# Altium footprint library Connector_PinHeader_1.27mm.PcbLib: 278 footprints (part 16 of 18)
Each footprint in its own frame and in the unit in brackets; x right, y up, seen from the top. Pads: shape width x height; smd on the part's side, far side on the other; paste and mask are expansions set on the pad; w line width, h text height; cw(c..) or ccw(c..) is an arc to the next point about the centre after c.
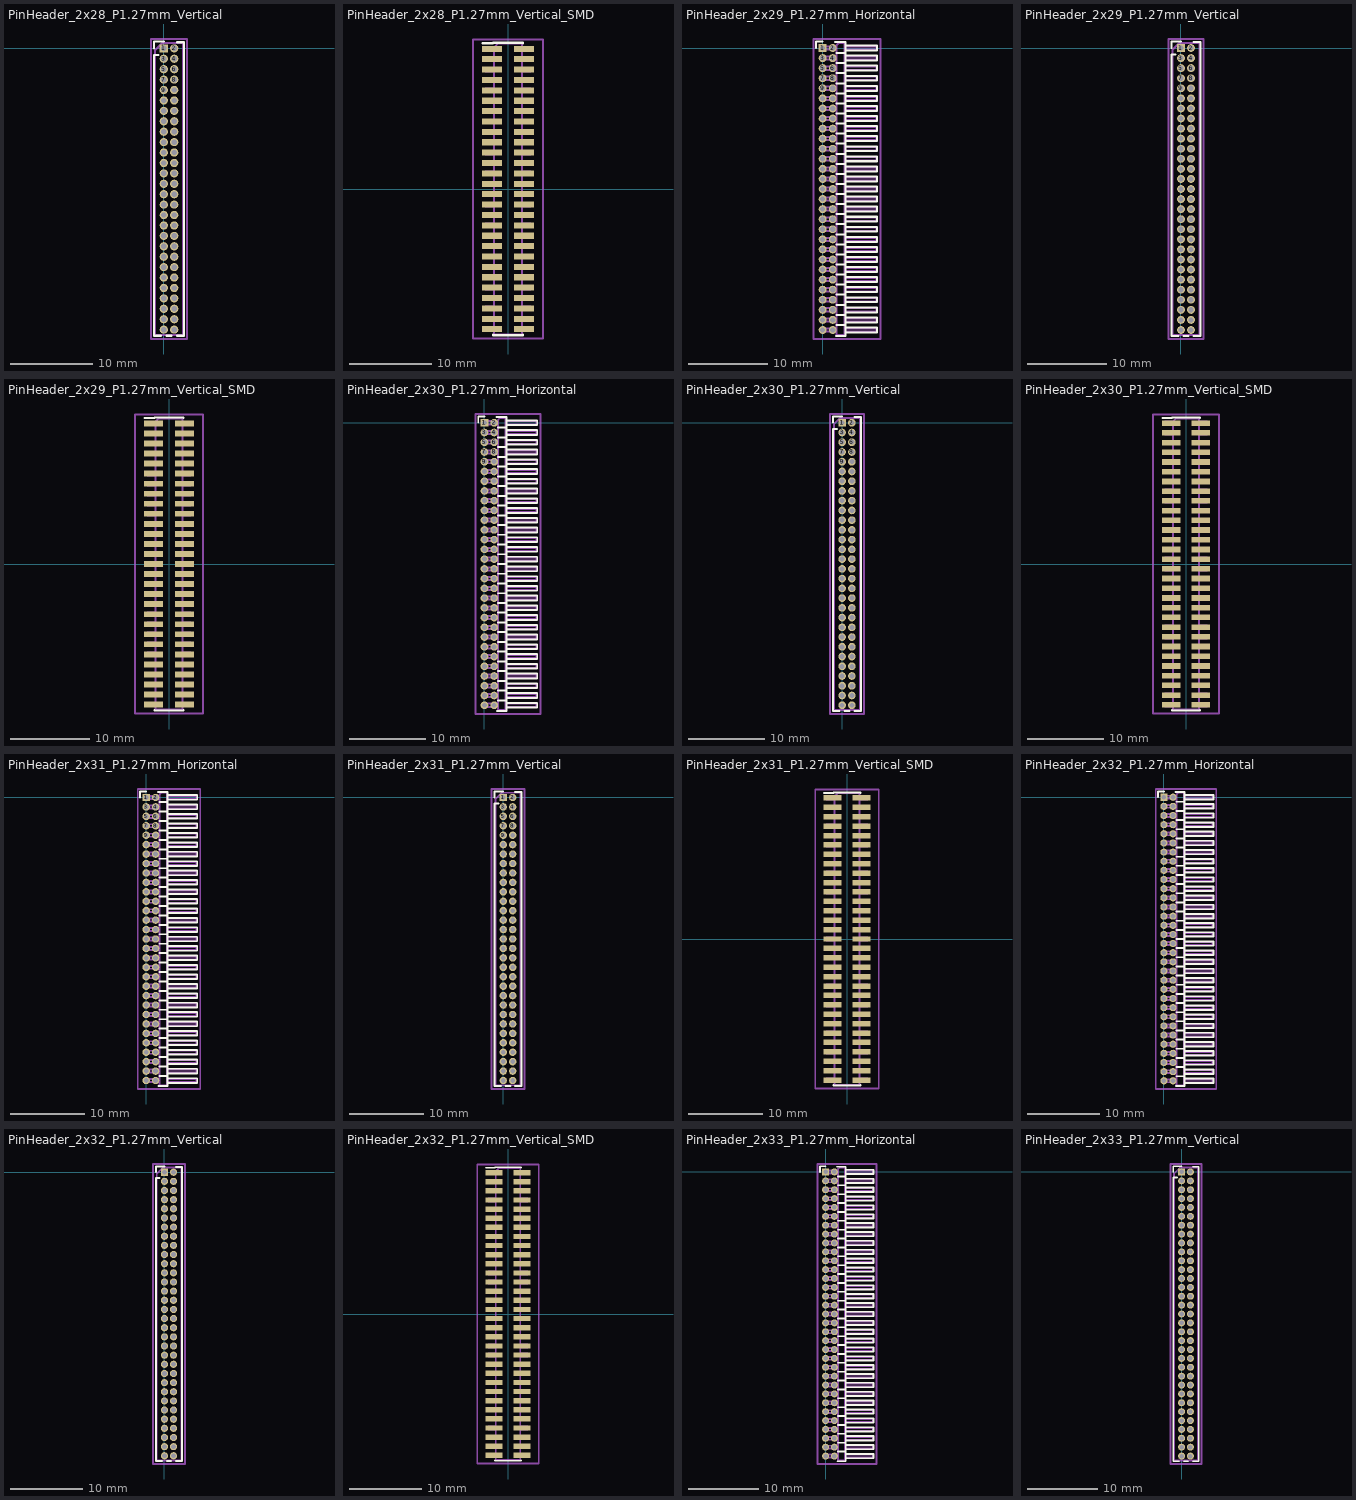
[diagram p15: the footprints below, top view; thin cyan lines are the x and y axes]

## PinHeader_2x28_P1.27mm_Vertical [mm]
pads (56):
  rect 1x1 hole 0.65: 1(0,0)
  round 1 hole 0.65: 2(1.27,0) 3(0,-1.27) 4(1.27,-1.27) 5(0,-2.54) 6(1.27,-2.54) 7(0,-3.81) 8(1.27,-3.81) 9(0,-5.08) 10(1.27,-5.08) 11(0,-6.35) 12(1.27,-6.35) 13(0,-7.62) 14(1.27,-7.62) 15(0,-8.89) 16(1.27,-8.89) 17(0,-10.16) 18(1.27,-10.16) 19(0,-11.43) 20(1.27,-11.43) 21(0,-12.7) 22(1.27,-12.7) 23(0,-13.97) 24(1.27,-13.97) 25(0,-15.24) 26(1.27,-15.24) 27(0,-16.51) 28(1.27,-16.51) 29(0,-17.78) 30(1.27,-17.78) 31(0,-19.05) 32(1.27,-19.05) 33(0,-20.32) 34(1.27,-20.32) 35(0,-21.59) 36(1.27,-21.59) 37(0,-22.86) 38(1.27,-22.86) 39(0,-24.13) 40(1.27,-24.13) 41(0,-25.4) 42(1.27,-25.4) 43(0,-26.67) 44(1.27,-26.67) 45(0,-27.94) 46(1.27,-27.94) 47(0,-29.21) 48(1.27,-29.21) 49(0,-30.48) 50(1.27,-30.48) 51(0,-31.75) 52(1.27,-31.75) 53(0,-33.02) 54(1.27,-33.02) 55(0,-34.29) 56(1.27,-34.29)
F.SilkS:
  lines w0.254: -1.18,0 -1.18,0.81 0,0.81 ; -0.667,-0.81 -1.18,-0.81 -1.18,-35.035 -0.318,-35.035 ; 0.318,-35.035 0.952,-35.035 ; 1.588,-35.035 2.45,-35.035 2.45,0.745 1.588,0.745
Top Assembly:
  lines w0.254: -1.07,-34.925 2.34,-34.925 2.34,0.635 -0.218,0.635 -1.07,-0.218 -1.07,-34.925
  text "'.Designator'" at 1.475,-21.192 h1
Top Courtyard:
  lines w0.254: -1.57,-35.43 2.84,-35.43 2.84,1.14 -1.57,1.14 -1.57,-35.43
Top Designator:
  text ".Designator" at -6.983,-17.653 h1.52

## PinHeader_2x28_P1.27mm_Vertical_SMD [mm]
pads (56):
  rect 2.4x0.74 smd: 1(-1.95,17.145) 2(1.95,17.145) 3(-1.95,15.875) 4(1.95,15.875) 5(-1.95,14.605) 6(1.95,14.605) 7(-1.95,13.335) 8(1.95,13.335) 9(-1.95,12.065) 10(1.95,12.065) 11(-1.95,10.795) 12(1.95,10.795) 13(-1.95,9.525) 14(1.95,9.525) 15(-1.95,8.255) 16(1.95,8.255) 17(-1.95,6.985) 18(1.95,6.985) 19(-1.95,5.715) 20(1.95,5.715) 21(-1.95,4.445) 22(1.95,4.445) 23(-1.95,3.175) 24(1.95,3.175) 25(-1.95,1.905) 26(1.95,1.905) 27(-1.95,0.635) 28(1.95,0.635) 29(-1.95,-0.635) 30(1.95,-0.635) 31(-1.95,-1.905) 32(1.95,-1.905) 33(-1.95,-3.175) 34(1.95,-3.175) 35(-1.95,-4.445) 36(1.95,-4.445) 37(-1.95,-5.715) 38(1.95,-5.715) 39(-1.95,-6.985) 40(1.95,-6.985) 41(-1.95,-8.255) 42(1.95,-8.255) 43(-1.95,-9.525) 44(1.95,-9.525) 45(-1.95,-10.795) 46(1.95,-10.795) 47(-1.95,-12.065) 48(1.95,-12.065) 49(-1.95,-13.335) 50(1.95,-13.335) 51(-1.95,-14.605) 52(1.95,-14.605) 53(-1.95,-15.875) 54(1.95,-15.875) 55(-1.95,-17.145) 56(1.95,-17.145)
F.SilkS:
  lines w0.254: -3.09,17.825 -1.815,17.825 -1.815,17.89 1.815,17.89 1.815,17.825 ; -1.815,-17.825 -1.815,-17.89 1.815,-17.89 1.815,-17.825
Top Assembly:
  drawing of 173 lines, arcs and shapes, not listed
  text "'.Designator'" at 0.84,-4.047 h1
Top Courtyard:
  lines w0.254: -4.29,-18.28 4.29,-18.28 4.29,18.28 -4.29,18.28 -4.29,-18.28
Top Designator:
  text ".Designator" at -7.618,-0.508 h1.52

## PinHeader_2x29_P1.27mm_Horizontal [mm]
pads (58):
  rect 1x1 hole 0.65: 1(0,0)
  round 1 hole 0.65: 2(1.27,0) 3(0,-1.27) 4(1.27,-1.27) 5(0,-2.54) 6(1.27,-2.54) 7(0,-3.81) 8(1.27,-3.81) 9(0,-5.08) 10(1.27,-5.08) 11(0,-6.35) 12(1.27,-6.35) 13(0,-7.62) 14(1.27,-7.62) 15(0,-8.89) 16(1.27,-8.89) 17(0,-10.16) 18(1.27,-10.16) 19(0,-11.43) 20(1.27,-11.43) 21(0,-12.7) 22(1.27,-12.7) 23(0,-13.97) 24(1.27,-13.97) 25(0,-15.24) 26(1.27,-15.24) 27(0,-16.51) 28(1.27,-16.51) 29(0,-17.78) 30(1.27,-17.78) 31(0,-19.05) 32(1.27,-19.05) 33(0,-20.32) 34(1.27,-20.32) 35(0,-21.59) 36(1.27,-21.59) 37(0,-22.86) 38(1.27,-22.86) 39(0,-24.13) 40(1.27,-24.13) 41(0,-25.4) 42(1.27,-25.4) 43(0,-26.67) 44(1.27,-26.67) 45(0,-27.94) 46(1.27,-27.94) 47(0,-29.21) 48(1.27,-29.21) 49(0,-30.48) 50(1.27,-30.48) 51(0,-31.75) 52(1.27,-31.75) 53(0,-33.02) 54(1.27,-33.02) 55(0,-34.29) 56(1.27,-34.29) 57(0,-35.56) 58(1.27,-35.56)
F.SilkS:
  lines w0.254: -0.81,0 -0.81,0.81 0,0.81 ; 1.588,0.745 2.88,0.745 2.88,-36.305 1.66,-36.305 ; 1.773,-34.925 2.88,-34.925 ; 1.773,-33.655 2.88,-33.655 ; 1.773,-32.385 2.88,-32.385 ; 1.773,-31.115 2.88,-31.115 ; 1.773,-29.845 2.88,-29.845 ; 1.773,-28.575 2.88,-28.575 ; 1.773,-27.305 2.88,-27.305 ; 1.773,-26.035 2.88,-26.035 ; 1.773,-24.765 2.88,-24.765 ; 1.773,-23.495 2.88,-23.495 ; 1.773,-22.225 2.88,-22.225 ; 1.773,-20.955 2.88,-20.955 ; 1.773,-19.685 2.88,-19.685 ; 1.773,-18.415 2.88,-18.415 ; 1.773,-17.145 2.88,-17.145 ; 1.773,-15.875 2.88,-15.875 ; 1.773,-14.605 2.88,-14.605 ; 1.773,-13.335 2.88,-13.335 ; 1.773,-12.065 2.88,-12.065 ; 1.773,-10.795 2.88,-10.795 ; 1.773,-9.525 2.88,-9.525 ; 1.773,-8.255 2.88,-8.255 ; 1.773,-6.985 2.88,-6.985 ; 1.773,-5.715 2.88,-5.715 ; 1.773,-4.445 2.88,-4.445 ; 1.773,-3.175 2.88,-3.175 ; 1.773,-1.905 2.88,-1.905 ; 1.773,-0.635 2.88,-0.635 ; 2.88,-35.87 6.88,-35.87 6.88,-35.25 2.88,-35.25 ; 2.88,-34.6 6.88,-34.6 6.88,-33.98 2.88,-33.98 ; 2.88,-33.33 6.88,-33.33 6.88,-32.71 2.88,-32.71 ; 2.88,-32.06 6.88,-32.06 6.88,-31.44 2.88,-31.44 ; 2.88,-30.79 6.88,-30.79 6.88,-30.17 2.88,-30.17 ; 2.88,-29.52 6.88,-29.52 6.88,-28.9 2.88,-28.9 ; 2.88,-28.25 6.88,-28.25 6.88,-27.63 2.88,-27.63 ; 2.88,-26.98 6.88,-26.98 6.88,-26.36 2.88,-26.36 ; 2.88,-25.71 6.88,-25.71 6.88,-25.09 2.88,-25.09 ; 2.88,-24.44 6.88,-24.44 6.88,-23.82 2.88,-23.82 ; 2.88,-23.17 6.88,-23.17 6.88,-22.55 2.88,-22.55 ; 2.88,-21.9 6.88,-21.9 6.88,-21.28 2.88,-21.28 ; 2.88,-20.63 6.88,-20.63 6.88,-20.01 2.88,-20.01 ; 2.88,-19.36 6.88,-19.36 6.88,-18.74 2.88,-18.74 ; 2.88,-18.09 6.88,-18.09 6.88,-17.47 2.88,-17.47 ; 2.88,-16.82 6.88,-16.82 6.88,-16.2 2.88,-16.2 ; 2.88,-15.55 6.88,-15.55 6.88,-14.93 2.88,-14.93 ; 2.88,-14.28 6.88,-14.28 6.88,-13.66 2.88,-13.66 ; 2.88,-13.01 6.88,-13.01 6.88,-12.39 2.88,-12.39 ; 2.88,-11.74 6.88,-11.74 6.88,-11.12 2.88,-11.12 ; 2.88,-10.47 6.88,-10.47 6.88,-9.85 2.88,-9.85 ; 2.88,-9.2 6.88,-9.2 6.88,-8.58 2.88,-8.58 ; 2.88,-7.93 6.88,-7.93 6.88,-7.31 2.88,-7.31 ; 2.88,-6.66 6.88,-6.66 6.88,-6.04 2.88,-6.04 ; 2.88,-5.39 6.88,-5.39 6.88,-4.77 2.88,-4.77 ; 2.88,-4.12 6.88,-4.12 6.88,-3.5 2.88,-3.5 ; 2.88,-2.85 6.88,-2.85 6.88,-2.23 2.88,-2.23 ; 2.88,-1.58 6.88,-1.58 6.88,-0.96 2.88,-0.96 ; 2.88,-0.31 6.88,-0.31 6.88,0.31 2.88,0.31 2.88,-0.31
Top Assembly:
  drawing of 179 lines, arcs and shapes, not listed
  text "'.Designator'" at 2.774,-20.208 h0.6
Top Courtyard:
  lines w0.254: -1.14,-36.7 7.28,-36.7 7.28,1.14 -1.14,1.14 -1.14,-36.7
Top Designator:
  text ".Designator" at -4.548,-18.288 h1.52

## PinHeader_2x29_P1.27mm_Vertical [mm]
pads (58):
  rect 1x1 hole 0.65: 1(0,0)
  round 1 hole 0.65: 2(1.27,0) 3(0,-1.27) 4(1.27,-1.27) 5(0,-2.54) 6(1.27,-2.54) 7(0,-3.81) 8(1.27,-3.81) 9(0,-5.08) 10(1.27,-5.08) 11(0,-6.35) 12(1.27,-6.35) 13(0,-7.62) 14(1.27,-7.62) 15(0,-8.89) 16(1.27,-8.89) 17(0,-10.16) 18(1.27,-10.16) 19(0,-11.43) 20(1.27,-11.43) 21(0,-12.7) 22(1.27,-12.7) 23(0,-13.97) 24(1.27,-13.97) 25(0,-15.24) 26(1.27,-15.24) 27(0,-16.51) 28(1.27,-16.51) 29(0,-17.78) 30(1.27,-17.78) 31(0,-19.05) 32(1.27,-19.05) 33(0,-20.32) 34(1.27,-20.32) 35(0,-21.59) 36(1.27,-21.59) 37(0,-22.86) 38(1.27,-22.86) 39(0,-24.13) 40(1.27,-24.13) 41(0,-25.4) 42(1.27,-25.4) 43(0,-26.67) 44(1.27,-26.67) 45(0,-27.94) 46(1.27,-27.94) 47(0,-29.21) 48(1.27,-29.21) 49(0,-30.48) 50(1.27,-30.48) 51(0,-31.75) 52(1.27,-31.75) 53(0,-33.02) 54(1.27,-33.02) 55(0,-34.29) 56(1.27,-34.29) 57(0,-35.56) 58(1.27,-35.56)
F.SilkS:
  lines w0.254: -1.18,0 -1.18,0.81 0,0.81 ; -0.667,-0.81 -1.18,-0.81 -1.18,-36.305 -0.318,-36.305 ; 0.318,-36.305 0.952,-36.305 ; 1.588,-36.305 2.45,-36.305 2.45,0.745 1.588,0.745
Top Assembly:
  lines w0.254: -1.07,-36.195 2.34,-36.195 2.34,0.635 -0.218,0.635 -1.07,-0.218 -1.07,-36.195
  text "'.Designator'" at 1.475,-21.827 h1
Top Courtyard:
  lines w0.254: -1.57,-36.7 2.84,-36.7 2.84,1.14 -1.57,1.14 -1.57,-36.7
Top Designator:
  text ".Designator" at -6.983,-18.288 h1.52

## PinHeader_2x29_P1.27mm_Vertical_SMD [mm]
pads (58):
  rect 2.4x0.74 smd: 1(-1.95,17.78) 2(1.95,17.78) 3(-1.95,16.51) 4(1.95,16.51) 5(-1.95,15.24) 6(1.95,15.24) 7(-1.95,13.97) 8(1.95,13.97) 9(-1.95,12.7) 10(1.95,12.7) 11(-1.95,11.43) 12(1.95,11.43) 13(-1.95,10.16) 14(1.95,10.16) 15(-1.95,8.89) 16(1.95,8.89) 17(-1.95,7.62) 18(1.95,7.62) 19(-1.95,6.35) 20(1.95,6.35) 21(-1.95,5.08) 22(1.95,5.08) 23(-1.95,3.81) 24(1.95,3.81) 25(-1.95,2.54) 26(1.95,2.54) 27(-1.95,1.27) 28(1.95,1.27) 29(-1.95,0) 30(1.95,0) 31(-1.95,-1.27) 32(1.95,-1.27) 33(-1.95,-2.54) 34(1.95,-2.54) 35(-1.95,-3.81) 36(1.95,-3.81) 37(-1.95,-5.08) 38(1.95,-5.08) 39(-1.95,-6.35) 40(1.95,-6.35) 41(-1.95,-7.62) 42(1.95,-7.62) 43(-1.95,-8.89) 44(1.95,-8.89) 45(-1.95,-10.16) 46(1.95,-10.16) 47(-1.95,-11.43) 48(1.95,-11.43) 49(-1.95,-12.7) 50(1.95,-12.7) 51(-1.95,-13.97) 52(1.95,-13.97) 53(-1.95,-15.24) 54(1.95,-15.24) 55(-1.95,-16.51) 56(1.95,-16.51) 57(-1.95,-17.78) 58(1.95,-17.78)
F.SilkS:
  lines w0.254: -3.09,18.46 -1.815,18.46 -1.815,18.525 1.815,18.525 1.815,18.46 ; -1.815,-18.46 -1.815,-18.525 1.815,-18.525 1.815,-18.46
Top Assembly:
  drawing of 179 lines, arcs and shapes, not listed
  text "'.Designator'" at 0.84,-4.047 h1
Top Courtyard:
  lines w0.254: -4.29,-18.92 4.29,-18.92 4.29,18.92 -4.29,18.92 -4.29,-18.92
Top Designator:
  text ".Designator" at -7.618,-0.508 h1.52

## PinHeader_2x30_P1.27mm_Horizontal [mm]
pads (60):
  rect 1x1 hole 0.65: 1(0,0)
  round 1 hole 0.65: 2(1.27,0) 3(0,-1.27) 4(1.27,-1.27) 5(0,-2.54) 6(1.27,-2.54) 7(0,-3.81) 8(1.27,-3.81) 9(0,-5.08) 10(1.27,-5.08) 11(0,-6.35) 12(1.27,-6.35) 13(0,-7.62) 14(1.27,-7.62) 15(0,-8.89) 16(1.27,-8.89) 17(0,-10.16) 18(1.27,-10.16) 19(0,-11.43) 20(1.27,-11.43) 21(0,-12.7) 22(1.27,-12.7) 23(0,-13.97) 24(1.27,-13.97) 25(0,-15.24) 26(1.27,-15.24) 27(0,-16.51) 28(1.27,-16.51) 29(0,-17.78) 30(1.27,-17.78) 31(0,-19.05) 32(1.27,-19.05) 33(0,-20.32) 34(1.27,-20.32) 35(0,-21.59) 36(1.27,-21.59) 37(0,-22.86) 38(1.27,-22.86) 39(0,-24.13) 40(1.27,-24.13) 41(0,-25.4) 42(1.27,-25.4) 43(0,-26.67) 44(1.27,-26.67) 45(0,-27.94) 46(1.27,-27.94) 47(0,-29.21) 48(1.27,-29.21) 49(0,-30.48) 50(1.27,-30.48) 51(0,-31.75) 52(1.27,-31.75) 53(0,-33.02) 54(1.27,-33.02) 55(0,-34.29) 56(1.27,-34.29) 57(0,-35.56) 58(1.27,-35.56) 59(0,-36.83) 60(1.27,-36.83)
F.SilkS:
  lines w0.254: -0.81,0 -0.81,0.81 0,0.81 ; 1.588,0.745 2.88,0.745 2.88,-37.575 1.66,-37.575 ; 1.773,-36.195 2.88,-36.195 ; 1.773,-34.925 2.88,-34.925 ; 1.773,-33.655 2.88,-33.655 ; 1.773,-32.385 2.88,-32.385 ; 1.773,-31.115 2.88,-31.115 ; 1.773,-29.845 2.88,-29.845 ; 1.773,-28.575 2.88,-28.575 ; 1.773,-27.305 2.88,-27.305 ; 1.773,-26.035 2.88,-26.035 ; 1.773,-24.765 2.88,-24.765 ; 1.773,-23.495 2.88,-23.495 ; 1.773,-22.225 2.88,-22.225 ; 1.773,-20.955 2.88,-20.955 ; 1.773,-19.685 2.88,-19.685 ; 1.773,-18.415 2.88,-18.415 ; 1.773,-17.145 2.88,-17.145 ; 1.773,-15.875 2.88,-15.875 ; 1.773,-14.605 2.88,-14.605 ; 1.773,-13.335 2.88,-13.335 ; 1.773,-12.065 2.88,-12.065 ; 1.773,-10.795 2.88,-10.795 ; 1.773,-9.525 2.88,-9.525 ; 1.773,-8.255 2.88,-8.255 ; 1.773,-6.985 2.88,-6.985 ; 1.773,-5.715 2.88,-5.715 ; 1.773,-4.445 2.88,-4.445 ; 1.773,-3.175 2.88,-3.175 ; 1.773,-1.905 2.88,-1.905 ; 1.773,-0.635 2.88,-0.635 ; 2.88,-37.14 6.88,-37.14 6.88,-36.52 2.88,-36.52 ; 2.88,-35.87 6.88,-35.87 6.88,-35.25 2.88,-35.25 ; 2.88,-34.6 6.88,-34.6 6.88,-33.98 2.88,-33.98 ; 2.88,-33.33 6.88,-33.33 6.88,-32.71 2.88,-32.71 ; 2.88,-32.06 6.88,-32.06 6.88,-31.44 2.88,-31.44 ; 2.88,-30.79 6.88,-30.79 6.88,-30.17 2.88,-30.17 ; 2.88,-29.52 6.88,-29.52 6.88,-28.9 2.88,-28.9 ; 2.88,-28.25 6.88,-28.25 6.88,-27.63 2.88,-27.63 ; 2.88,-26.98 6.88,-26.98 6.88,-26.36 2.88,-26.36 ; 2.88,-25.71 6.88,-25.71 6.88,-25.09 2.88,-25.09 ; 2.88,-24.44 6.88,-24.44 6.88,-23.82 2.88,-23.82 ; 2.88,-23.17 6.88,-23.17 6.88,-22.55 2.88,-22.55 ; 2.88,-21.9 6.88,-21.9 6.88,-21.28 2.88,-21.28 ; 2.88,-20.63 6.88,-20.63 6.88,-20.01 2.88,-20.01 ; 2.88,-19.36 6.88,-19.36 6.88,-18.74 2.88,-18.74 ; 2.88,-18.09 6.88,-18.09 6.88,-17.47 2.88,-17.47 ; 2.88,-16.82 6.88,-16.82 6.88,-16.2 2.88,-16.2 ; 2.88,-15.55 6.88,-15.55 6.88,-14.93 2.88,-14.93 ; 2.88,-14.28 6.88,-14.28 6.88,-13.66 2.88,-13.66 ; 2.88,-13.01 6.88,-13.01 6.88,-12.39 2.88,-12.39 ; 2.88,-11.74 6.88,-11.74 6.88,-11.12 2.88,-11.12 ; 2.88,-10.47 6.88,-10.47 6.88,-9.85 2.88,-9.85 ; 2.88,-9.2 6.88,-9.2 6.88,-8.58 2.88,-8.58 ; 2.88,-7.93 6.88,-7.93 6.88,-7.31 2.88,-7.31 ; 2.88,-6.66 6.88,-6.66 6.88,-6.04 2.88,-6.04 ; 2.88,-5.39 6.88,-5.39 6.88,-4.77 2.88,-4.77 ; 2.88,-4.12 6.88,-4.12 6.88,-3.5 2.88,-3.5 ; 2.88,-2.85 6.88,-2.85 6.88,-2.23 2.88,-2.23 ; 2.88,-1.58 6.88,-1.58 6.88,-0.96 2.88,-0.96 ; 2.88,-0.31 6.88,-0.31 6.88,0.31 2.88,0.31 2.88,-0.31
Top Assembly:
  drawing of 185 lines, arcs and shapes, not listed
  text "'.Designator'" at 2.774,-20.843 h0.6
Top Courtyard:
  lines w0.254: -1.14,-37.97 7.28,-37.97 7.28,1.14 -1.14,1.14 -1.14,-37.97
Top Designator:
  text ".Designator" at -4.548,-18.923 h1.52

## PinHeader_2x30_P1.27mm_Vertical [mm]
pads (60):
  rect 1x1 hole 0.65: 1(0,0)
  round 1 hole 0.65: 2(1.27,0) 3(0,-1.27) 4(1.27,-1.27) 5(0,-2.54) 6(1.27,-2.54) 7(0,-3.81) 8(1.27,-3.81) 9(0,-5.08) 10(1.27,-5.08) 11(0,-6.35) 12(1.27,-6.35) 13(0,-7.62) 14(1.27,-7.62) 15(0,-8.89) 16(1.27,-8.89) 17(0,-10.16) 18(1.27,-10.16) 19(0,-11.43) 20(1.27,-11.43) 21(0,-12.7) 22(1.27,-12.7) 23(0,-13.97) 24(1.27,-13.97) 25(0,-15.24) 26(1.27,-15.24) 27(0,-16.51) 28(1.27,-16.51) 29(0,-17.78) 30(1.27,-17.78) 31(0,-19.05) 32(1.27,-19.05) 33(0,-20.32) 34(1.27,-20.32) 35(0,-21.59) 36(1.27,-21.59) 37(0,-22.86) 38(1.27,-22.86) 39(0,-24.13) 40(1.27,-24.13) 41(0,-25.4) 42(1.27,-25.4) 43(0,-26.67) 44(1.27,-26.67) 45(0,-27.94) 46(1.27,-27.94) 47(0,-29.21) 48(1.27,-29.21) 49(0,-30.48) 50(1.27,-30.48) 51(0,-31.75) 52(1.27,-31.75) 53(0,-33.02) 54(1.27,-33.02) 55(0,-34.29) 56(1.27,-34.29) 57(0,-35.56) 58(1.27,-35.56) 59(0,-36.83) 60(1.27,-36.83)
F.SilkS:
  lines w0.254: -1.18,0 -1.18,0.81 0,0.81 ; -0.667,-0.81 -1.18,-0.81 -1.18,-37.575 -0.318,-37.575 ; 0.318,-37.575 0.952,-37.575 ; 1.588,-37.575 2.45,-37.575 2.45,0.745 1.588,0.745
Top Assembly:
  lines w0.254: -1.07,-37.465 2.34,-37.465 2.34,0.635 -0.218,0.635 -1.07,-0.218 -1.07,-37.465
  text "'.Designator'" at 1.475,-22.462 h1
Top Courtyard:
  lines w0.254: -1.57,-37.97 2.84,-37.97 2.84,1.14 -1.57,1.14 -1.57,-37.97
Top Designator:
  text ".Designator" at -6.983,-18.923 h1.52

## PinHeader_2x30_P1.27mm_Vertical_SMD [mm]
pads (60):
  rect 2.4x0.74 smd: 1(-1.95,18.415) 2(1.95,18.415) 3(-1.95,17.145) 4(1.95,17.145) 5(-1.95,15.875) 6(1.95,15.875) 7(-1.95,14.605) 8(1.95,14.605) 9(-1.95,13.335) 10(1.95,13.335) 11(-1.95,12.065) 12(1.95,12.065) 13(-1.95,10.795) 14(1.95,10.795) 15(-1.95,9.525) 16(1.95,9.525) 17(-1.95,8.255) 18(1.95,8.255) 19(-1.95,6.985) 20(1.95,6.985) 21(-1.95,5.715) 22(1.95,5.715) 23(-1.95,4.445) 24(1.95,4.445) 25(-1.95,3.175) 26(1.95,3.175) 27(-1.95,1.905) 28(1.95,1.905) 29(-1.95,0.635) 30(1.95,0.635) 31(-1.95,-0.635) 32(1.95,-0.635) 33(-1.95,-1.905) 34(1.95,-1.905) 35(-1.95,-3.175) 36(1.95,-3.175) 37(-1.95,-4.445) 38(1.95,-4.445) 39(-1.95,-5.715) 40(1.95,-5.715) 41(-1.95,-6.985) 42(1.95,-6.985) 43(-1.95,-8.255) 44(1.95,-8.255) 45(-1.95,-9.525) 46(1.95,-9.525) 47(-1.95,-10.795) 48(1.95,-10.795) 49(-1.95,-12.065) 50(1.95,-12.065) 51(-1.95,-13.335) 52(1.95,-13.335) 53(-1.95,-14.605) 54(1.95,-14.605) 55(-1.95,-15.875) 56(1.95,-15.875) 57(-1.95,-17.145) 58(1.95,-17.145) 59(-1.95,-18.415) 60(1.95,-18.415)
F.SilkS:
  lines w0.254: -3.09,19.095 -1.815,19.095 -1.815,19.16 1.815,19.16 1.815,19.095 ; -1.815,-19.095 -1.815,-19.16 1.815,-19.16 1.815,-19.095
Top Assembly:
  drawing of 185 lines, arcs and shapes, not listed
  text "'.Designator'" at 0.84,-4.047 h1
Top Courtyard:
  lines w0.254: -4.29,-19.55 4.29,-19.55 4.29,19.55 -4.29,19.55 -4.29,-19.55
Top Designator:
  text ".Designator" at -7.618,-0.508 h1.52

## PinHeader_2x31_P1.27mm_Horizontal [mm]
pads (62):
  rect 1x1 hole 0.65: 1(0,0)
  round 1 hole 0.65: 2(1.27,0) 3(0,-1.27) 4(1.27,-1.27) 5(0,-2.54) 6(1.27,-2.54) 7(0,-3.81) 8(1.27,-3.81) 9(0,-5.08) 10(1.27,-5.08) 11(0,-6.35) 12(1.27,-6.35) 13(0,-7.62) 14(1.27,-7.62) 15(0,-8.89) 16(1.27,-8.89) 17(0,-10.16) 18(1.27,-10.16) 19(0,-11.43) 20(1.27,-11.43) 21(0,-12.7) 22(1.27,-12.7) 23(0,-13.97) 24(1.27,-13.97) 25(0,-15.24) 26(1.27,-15.24) 27(0,-16.51) 28(1.27,-16.51) 29(0,-17.78) 30(1.27,-17.78) 31(0,-19.05) 32(1.27,-19.05) 33(0,-20.32) 34(1.27,-20.32) 35(0,-21.59) 36(1.27,-21.59) 37(0,-22.86) 38(1.27,-22.86) 39(0,-24.13) 40(1.27,-24.13) 41(0,-25.4) 42(1.27,-25.4) 43(0,-26.67) 44(1.27,-26.67) 45(0,-27.94) 46(1.27,-27.94) 47(0,-29.21) 48(1.27,-29.21) 49(0,-30.48) 50(1.27,-30.48) 51(0,-31.75) 52(1.27,-31.75) 53(0,-33.02) 54(1.27,-33.02) 55(0,-34.29) 56(1.27,-34.29) 57(0,-35.56) 58(1.27,-35.56) 59(0,-36.83) 60(1.27,-36.83) 61(0,-38.1) 62(1.27,-38.1)
F.SilkS:
  lines w0.254: -0.81,0 -0.81,0.81 0,0.81 ; 1.588,0.745 2.88,0.745 2.88,-38.845 1.66,-38.845 ; 1.773,-37.465 2.88,-37.465 ; 1.773,-36.195 2.88,-36.195 ; 1.773,-34.925 2.88,-34.925 ; 1.773,-33.655 2.88,-33.655 ; 1.773,-32.385 2.88,-32.385 ; 1.773,-31.115 2.88,-31.115 ; 1.773,-29.845 2.88,-29.845 ; 1.773,-28.575 2.88,-28.575 ; 1.773,-27.305 2.88,-27.305 ; 1.773,-26.035 2.88,-26.035 ; 1.773,-24.765 2.88,-24.765 ; 1.773,-23.495 2.88,-23.495 ; 1.773,-22.225 2.88,-22.225 ; 1.773,-20.955 2.88,-20.955 ; 1.773,-19.685 2.88,-19.685 ; 1.773,-18.415 2.88,-18.415 ; 1.773,-17.145 2.88,-17.145 ; 1.773,-15.875 2.88,-15.875 ; 1.773,-14.605 2.88,-14.605 ; 1.773,-13.335 2.88,-13.335 ; 1.773,-12.065 2.88,-12.065 ; 1.773,-10.795 2.88,-10.795 ; 1.773,-9.525 2.88,-9.525 ; 1.773,-8.255 2.88,-8.255 ; 1.773,-6.985 2.88,-6.985 ; 1.773,-5.715 2.88,-5.715 ; 1.773,-4.445 2.88,-4.445 ; 1.773,-3.175 2.88,-3.175 ; 1.773,-1.905 2.88,-1.905 ; 1.773,-0.635 2.88,-0.635 ; 2.88,-38.41 6.88,-38.41 6.88,-37.79 2.88,-37.79 ; 2.88,-37.14 6.88,-37.14 6.88,-36.52 2.88,-36.52 ; 2.88,-35.87 6.88,-35.87 6.88,-35.25 2.88,-35.25 ; 2.88,-34.6 6.88,-34.6 6.88,-33.98 2.88,-33.98 ; 2.88,-33.33 6.88,-33.33 6.88,-32.71 2.88,-32.71 ; 2.88,-32.06 6.88,-32.06 6.88,-31.44 2.88,-31.44 ; 2.88,-30.79 6.88,-30.79 6.88,-30.17 2.88,-30.17 ; 2.88,-29.52 6.88,-29.52 6.88,-28.9 2.88,-28.9 ; 2.88,-28.25 6.88,-28.25 6.88,-27.63 2.88,-27.63 ; 2.88,-26.98 6.88,-26.98 6.88,-26.36 2.88,-26.36 ; 2.88,-25.71 6.88,-25.71 6.88,-25.09 2.88,-25.09 ; 2.88,-24.44 6.88,-24.44 6.88,-23.82 2.88,-23.82 ; 2.88,-23.17 6.88,-23.17 6.88,-22.55 2.88,-22.55 ; 2.88,-21.9 6.88,-21.9 6.88,-21.28 2.88,-21.28 ; 2.88,-20.63 6.88,-20.63 6.88,-20.01 2.88,-20.01 ; 2.88,-19.36 6.88,-19.36 6.88,-18.74 2.88,-18.74 ; 2.88,-18.09 6.88,-18.09 6.88,-17.47 2.88,-17.47 ; 2.88,-16.82 6.88,-16.82 6.88,-16.2 2.88,-16.2 ; 2.88,-15.55 6.88,-15.55 6.88,-14.93 2.88,-14.93 ; 2.88,-14.28 6.88,-14.28 6.88,-13.66 2.88,-13.66 ; 2.88,-13.01 6.88,-13.01 6.88,-12.39 2.88,-12.39 ; 2.88,-11.74 6.88,-11.74 6.88,-11.12 2.88,-11.12 ; 2.88,-10.47 6.88,-10.47 6.88,-9.85 2.88,-9.85 ; 2.88,-9.2 6.88,-9.2 6.88,-8.58 2.88,-8.58 ; 2.88,-7.93 6.88,-7.93 6.88,-7.31 2.88,-7.31 ; 2.88,-6.66 6.88,-6.66 6.88,-6.04 2.88,-6.04 ; 2.88,-5.39 6.88,-5.39 6.88,-4.77 2.88,-4.77 ; 2.88,-4.12 6.88,-4.12 6.88,-3.5 2.88,-3.5 ; 2.88,-2.85 6.88,-2.85 6.88,-2.23 2.88,-2.23 ; 2.88,-1.58 6.88,-1.58 6.88,-0.96 2.88,-0.96 ; 2.88,-0.31 6.88,-0.31 6.88,0.31 2.88,0.31 2.88,-0.31
Top Assembly:
  drawing of 191 lines, arcs and shapes, not listed
  text "'.Designator'" at 2.774,-21.478 h0.6
Top Courtyard:
  lines w0.254: -1.14,-39.24 7.28,-39.24 7.28,1.14 -1.14,1.14 -1.14,-39.24
Top Designator:
  text ".Designator" at -4.548,-19.558 h1.52

## PinHeader_2x31_P1.27mm_Vertical [mm]
pads (62):
  rect 1x1 hole 0.65: 1(0,0)
  round 1 hole 0.65: 2(1.27,0) 3(0,-1.27) 4(1.27,-1.27) 5(0,-2.54) 6(1.27,-2.54) 7(0,-3.81) 8(1.27,-3.81) 9(0,-5.08) 10(1.27,-5.08) 11(0,-6.35) 12(1.27,-6.35) 13(0,-7.62) 14(1.27,-7.62) 15(0,-8.89) 16(1.27,-8.89) 17(0,-10.16) 18(1.27,-10.16) 19(0,-11.43) 20(1.27,-11.43) 21(0,-12.7) 22(1.27,-12.7) 23(0,-13.97) 24(1.27,-13.97) 25(0,-15.24) 26(1.27,-15.24) 27(0,-16.51) 28(1.27,-16.51) 29(0,-17.78) 30(1.27,-17.78) 31(0,-19.05) 32(1.27,-19.05) 33(0,-20.32) 34(1.27,-20.32) 35(0,-21.59) 36(1.27,-21.59) 37(0,-22.86) 38(1.27,-22.86) 39(0,-24.13) 40(1.27,-24.13) 41(0,-25.4) 42(1.27,-25.4) 43(0,-26.67) 44(1.27,-26.67) 45(0,-27.94) 46(1.27,-27.94) 47(0,-29.21) 48(1.27,-29.21) 49(0,-30.48) 50(1.27,-30.48) 51(0,-31.75) 52(1.27,-31.75) 53(0,-33.02) 54(1.27,-33.02) 55(0,-34.29) 56(1.27,-34.29) 57(0,-35.56) 58(1.27,-35.56) 59(0,-36.83) 60(1.27,-36.83) 61(0,-38.1) 62(1.27,-38.1)
F.SilkS:
  lines w0.254: -1.18,0 -1.18,0.81 0,0.81 ; -0.667,-0.81 -1.18,-0.81 -1.18,-38.845 -0.318,-38.845 ; 0.318,-38.845 0.952,-38.845 ; 1.588,-38.845 2.45,-38.845 2.45,0.745 1.588,0.745
Top Assembly:
  lines w0.254: -1.07,-38.735 2.34,-38.735 2.34,0.635 -0.218,0.635 -1.07,-0.218 -1.07,-38.735
  text "'.Designator'" at 1.475,-23.097 h1
Top Courtyard:
  lines w0.254: -1.57,-39.24 2.84,-39.24 2.84,1.14 -1.57,1.14 -1.57,-39.24
Top Designator:
  text ".Designator" at -6.983,-19.558 h1.52

## PinHeader_2x31_P1.27mm_Vertical_SMD [mm]
pads (62):
  rect 2.4x0.74 smd: 1(-1.95,19.05) 2(1.95,19.05) 3(-1.95,17.78) 4(1.95,17.78) 5(-1.95,16.51) 6(1.95,16.51) 7(-1.95,15.24) 8(1.95,15.24) 9(-1.95,13.97) 10(1.95,13.97) 11(-1.95,12.7) 12(1.95,12.7) 13(-1.95,11.43) 14(1.95,11.43) 15(-1.95,10.16) 16(1.95,10.16) 17(-1.95,8.89) 18(1.95,8.89) 19(-1.95,7.62) 20(1.95,7.62) 21(-1.95,6.35) 22(1.95,6.35) 23(-1.95,5.08) 24(1.95,5.08) 25(-1.95,3.81) 26(1.95,3.81) 27(-1.95,2.54) 28(1.95,2.54) 29(-1.95,1.27) 30(1.95,1.27) 31(-1.95,0) 32(1.95,0) 33(-1.95,-1.27) 34(1.95,-1.27) 35(-1.95,-2.54) 36(1.95,-2.54) 37(-1.95,-3.81) 38(1.95,-3.81) 39(-1.95,-5.08) 40(1.95,-5.08) 41(-1.95,-6.35) 42(1.95,-6.35) 43(-1.95,-7.62) 44(1.95,-7.62) 45(-1.95,-8.89) 46(1.95,-8.89) 47(-1.95,-10.16) 48(1.95,-10.16) 49(-1.95,-11.43) 50(1.95,-11.43) 51(-1.95,-12.7) 52(1.95,-12.7) 53(-1.95,-13.97) 54(1.95,-13.97) 55(-1.95,-15.24) 56(1.95,-15.24) 57(-1.95,-16.51) 58(1.95,-16.51) 59(-1.95,-17.78) 60(1.95,-17.78) 61(-1.95,-19.05) 62(1.95,-19.05)
F.SilkS:
  lines w0.254: -3.09,19.73 -1.815,19.73 -1.815,19.795 1.815,19.795 1.815,19.73 ; -1.815,-19.73 -1.815,-19.795 1.815,-19.795 1.815,-19.73
Top Assembly:
  drawing of 191 lines, arcs and shapes, not listed
  text "'.Designator'" at 0.84,-4.047 h1
Top Courtyard:
  lines w0.254: -4.29,-20.19 4.29,-20.19 4.29,20.19 -4.29,20.19 -4.29,-20.19
Top Designator:
  text ".Designator" at -7.618,-0.508 h1.52

## PinHeader_2x32_P1.27mm_Horizontal [mm]
pads (64):
  rect 1x1 hole 0.65: 1(0,0)
  round 1 hole 0.65: 2(1.27,0) 3(0,-1.27) 4(1.27,-1.27) 5(0,-2.54) 6(1.27,-2.54) 7(0,-3.81) 8(1.27,-3.81) 9(0,-5.08) 10(1.27,-5.08) 11(0,-6.35) 12(1.27,-6.35) 13(0,-7.62) 14(1.27,-7.62) 15(0,-8.89) 16(1.27,-8.89) 17(0,-10.16) 18(1.27,-10.16) 19(0,-11.43) 20(1.27,-11.43) 21(0,-12.7) 22(1.27,-12.7) 23(0,-13.97) 24(1.27,-13.97) 25(0,-15.24) 26(1.27,-15.24) 27(0,-16.51) 28(1.27,-16.51) 29(0,-17.78) 30(1.27,-17.78) 31(0,-19.05) 32(1.27,-19.05) 33(0,-20.32) 34(1.27,-20.32) 35(0,-21.59) 36(1.27,-21.59) 37(0,-22.86) 38(1.27,-22.86) 39(0,-24.13) 40(1.27,-24.13) 41(0,-25.4) 42(1.27,-25.4) 43(0,-26.67) 44(1.27,-26.67) 45(0,-27.94) 46(1.27,-27.94) 47(0,-29.21) 48(1.27,-29.21) 49(0,-30.48) 50(1.27,-30.48) 51(0,-31.75) 52(1.27,-31.75) 53(0,-33.02) 54(1.27,-33.02) 55(0,-34.29) 56(1.27,-34.29) 57(0,-35.56) 58(1.27,-35.56) 59(0,-36.83) 60(1.27,-36.83) 61(0,-38.1) 62(1.27,-38.1) 63(0,-39.37) 64(1.27,-39.37)
F.SilkS:
  lines w0.254: -0.81,0 -0.81,0.81 0,0.81 ; 1.588,0.745 2.88,0.745 2.88,-40.115 1.66,-40.115 ; 1.773,-38.735 2.88,-38.735 ; 1.773,-37.465 2.88,-37.465 ; 1.773,-36.195 2.88,-36.195 ; 1.773,-34.925 2.88,-34.925 ; 1.773,-33.655 2.88,-33.655 ; 1.773,-32.385 2.88,-32.385 ; 1.773,-31.115 2.88,-31.115 ; 1.773,-29.845 2.88,-29.845 ; 1.773,-28.575 2.88,-28.575 ; 1.773,-27.305 2.88,-27.305 ; 1.773,-26.035 2.88,-26.035 ; 1.773,-24.765 2.88,-24.765 ; 1.773,-23.495 2.88,-23.495 ; 1.773,-22.225 2.88,-22.225 ; 1.773,-20.955 2.88,-20.955 ; 1.773,-19.685 2.88,-19.685 ; 1.773,-18.415 2.88,-18.415 ; 1.773,-17.145 2.88,-17.145 ; 1.773,-15.875 2.88,-15.875 ; 1.773,-14.605 2.88,-14.605 ; 1.773,-13.335 2.88,-13.335 ; 1.773,-12.065 2.88,-12.065 ; 1.773,-10.795 2.88,-10.795 ; 1.773,-9.525 2.88,-9.525 ; 1.773,-8.255 2.88,-8.255 ; 1.773,-6.985 2.88,-6.985 ; 1.773,-5.715 2.88,-5.715 ; 1.773,-4.445 2.88,-4.445 ; 1.773,-3.175 2.88,-3.175 ; 1.773,-1.905 2.88,-1.905 ; 1.773,-0.635 2.88,-0.635 ; 2.88,-39.68 6.88,-39.68 6.88,-39.06 2.88,-39.06 ; 2.88,-38.41 6.88,-38.41 6.88,-37.79 2.88,-37.79 ; 2.88,-37.14 6.88,-37.14 6.88,-36.52 2.88,-36.52 ; 2.88,-35.87 6.88,-35.87 6.88,-35.25 2.88,-35.25 ; 2.88,-34.6 6.88,-34.6 6.88,-33.98 2.88,-33.98 ; 2.88,-33.33 6.88,-33.33 6.88,-32.71 2.88,-32.71 ; 2.88,-32.06 6.88,-32.06 6.88,-31.44 2.88,-31.44 ; 2.88,-30.79 6.88,-30.79 6.88,-30.17 2.88,-30.17 ; 2.88,-29.52 6.88,-29.52 6.88,-28.9 2.88,-28.9 ; 2.88,-28.25 6.88,-28.25 6.88,-27.63 2.88,-27.63 ; 2.88,-26.98 6.88,-26.98 6.88,-26.36 2.88,-26.36 ; 2.88,-25.71 6.88,-25.71 6.88,-25.09 2.88,-25.09 ; 2.88,-24.44 6.88,-24.44 6.88,-23.82 2.88,-23.82 ; 2.88,-23.17 6.88,-23.17 6.88,-22.55 2.88,-22.55 ; 2.88,-21.9 6.88,-21.9 6.88,-21.28 2.88,-21.28 ; 2.88,-20.63 6.88,-20.63 6.88,-20.01 2.88,-20.01 ; 2.88,-19.36 6.88,-19.36 6.88,-18.74 2.88,-18.74 ; 2.88,-18.09 6.88,-18.09 6.88,-17.47 2.88,-17.47 ; 2.88,-16.82 6.88,-16.82 6.88,-16.2 2.88,-16.2 ; 2.88,-15.55 6.88,-15.55 6.88,-14.93 2.88,-14.93 ; 2.88,-14.28 6.88,-14.28 6.88,-13.66 2.88,-13.66 ; 2.88,-13.01 6.88,-13.01 6.88,-12.39 2.88,-12.39 ; 2.88,-11.74 6.88,-11.74 6.88,-11.12 2.88,-11.12 ; 2.88,-10.47 6.88,-10.47 6.88,-9.85 2.88,-9.85 ; 2.88,-9.2 6.88,-9.2 6.88,-8.58 2.88,-8.58 ; 2.88,-7.93 6.88,-7.93 6.88,-7.31 2.88,-7.31 ; 2.88,-6.66 6.88,-6.66 6.88,-6.04 2.88,-6.04 ; 2.88,-5.39 6.88,-5.39 6.88,-4.77 2.88,-4.77 ; 2.88,-4.12 6.88,-4.12 6.88,-3.5 2.88,-3.5 ; 2.88,-2.85 6.88,-2.85 6.88,-2.23 2.88,-2.23 ; 2.88,-1.58 6.88,-1.58 6.88,-0.96 2.88,-0.96 ; 2.88,-0.31 6.88,-0.31 6.88,0.31 2.88,0.31 2.88,-0.31
Top Assembly:
  drawing of 197 lines, arcs and shapes, not listed
  text "'.Designator'" at 2.774,-22.113 h0.6
Top Courtyard:
  lines w0.254: -1.14,-40.51 7.28,-40.51 7.28,1.14 -1.14,1.14 -1.14,-40.51
Top Designator:
  text ".Designator" at -4.548,-20.193 h1.52

## PinHeader_2x32_P1.27mm_Vertical [mm]
pads (64):
  rect 1x1 hole 0.65: 1(0,0)
  round 1 hole 0.65: 2(1.27,0) 3(0,-1.27) 4(1.27,-1.27) 5(0,-2.54) 6(1.27,-2.54) 7(0,-3.81) 8(1.27,-3.81) 9(0,-5.08) 10(1.27,-5.08) 11(0,-6.35) 12(1.27,-6.35) 13(0,-7.62) 14(1.27,-7.62) 15(0,-8.89) 16(1.27,-8.89) 17(0,-10.16) 18(1.27,-10.16) 19(0,-11.43) 20(1.27,-11.43) 21(0,-12.7) 22(1.27,-12.7) 23(0,-13.97) 24(1.27,-13.97) 25(0,-15.24) 26(1.27,-15.24) 27(0,-16.51) 28(1.27,-16.51) 29(0,-17.78) 30(1.27,-17.78) 31(0,-19.05) 32(1.27,-19.05) 33(0,-20.32) 34(1.27,-20.32) 35(0,-21.59) 36(1.27,-21.59) 37(0,-22.86) 38(1.27,-22.86) 39(0,-24.13) 40(1.27,-24.13) 41(0,-25.4) 42(1.27,-25.4) 43(0,-26.67) 44(1.27,-26.67) 45(0,-27.94) 46(1.27,-27.94) 47(0,-29.21) 48(1.27,-29.21) 49(0,-30.48) 50(1.27,-30.48) 51(0,-31.75) 52(1.27,-31.75) 53(0,-33.02) 54(1.27,-33.02) 55(0,-34.29) 56(1.27,-34.29) 57(0,-35.56) 58(1.27,-35.56) 59(0,-36.83) 60(1.27,-36.83) 61(0,-38.1) 62(1.27,-38.1) 63(0,-39.37) 64(1.27,-39.37)
F.SilkS:
  lines w0.254: -1.18,0 -1.18,0.81 0,0.81 ; -0.667,-0.81 -1.18,-0.81 -1.18,-40.115 -0.318,-40.115 ; 0.318,-40.115 0.952,-40.115 ; 1.588,-40.115 2.45,-40.115 2.45,0.745 1.588,0.745
Top Assembly:
  lines w0.254: -1.07,-40.005 2.34,-40.005 2.34,0.635 -0.218,0.635 -1.07,-0.218 -1.07,-40.005
  text "'.Designator'" at 1.475,-23.732 h1
Top Courtyard:
  lines w0.254: -1.57,-40.51 2.84,-40.51 2.84,1.14 -1.57,1.14 -1.57,-40.51
Top Designator:
  text ".Designator" at -6.983,-20.193 h1.52

## PinHeader_2x32_P1.27mm_Vertical_SMD [mm]
pads (64):
  rect 2.4x0.74 smd: 1(-1.95,19.685) 2(1.95,19.685) 3(-1.95,18.415) 4(1.95,18.415) 5(-1.95,17.145) 6(1.95,17.145) 7(-1.95,15.875) 8(1.95,15.875) 9(-1.95,14.605) 10(1.95,14.605) 11(-1.95,13.335) 12(1.95,13.335) 13(-1.95,12.065) 14(1.95,12.065) 15(-1.95,10.795) 16(1.95,10.795) 17(-1.95,9.525) 18(1.95,9.525) 19(-1.95,8.255) 20(1.95,8.255) 21(-1.95,6.985) 22(1.95,6.985) 23(-1.95,5.715) 24(1.95,5.715) 25(-1.95,4.445) 26(1.95,4.445) 27(-1.95,3.175) 28(1.95,3.175) 29(-1.95,1.905) 30(1.95,1.905) 31(-1.95,0.635) 32(1.95,0.635) 33(-1.95,-0.635) 34(1.95,-0.635) 35(-1.95,-1.905) 36(1.95,-1.905) 37(-1.95,-3.175) 38(1.95,-3.175) 39(-1.95,-4.445) 40(1.95,-4.445) 41(-1.95,-5.715) 42(1.95,-5.715) 43(-1.95,-6.985) 44(1.95,-6.985) 45(-1.95,-8.255) 46(1.95,-8.255) 47(-1.95,-9.525) 48(1.95,-9.525) 49(-1.95,-10.795) 50(1.95,-10.795) 51(-1.95,-12.065) 52(1.95,-12.065) 53(-1.95,-13.335) 54(1.95,-13.335) 55(-1.95,-14.605) 56(1.95,-14.605) 57(-1.95,-15.875) 58(1.95,-15.875) 59(-1.95,-17.145) 60(1.95,-17.145) 61(-1.95,-18.415) 62(1.95,-18.415) 63(-1.95,-19.685) 64(1.95,-19.685)
F.SilkS:
  lines w0.254: -3.09,20.365 -1.815,20.365 -1.815,20.43 1.815,20.43 1.815,20.365 ; -1.815,-20.365 -1.815,-20.43 1.815,-20.43 1.815,-20.365
Top Assembly:
  drawing of 197 lines, arcs and shapes, not listed
  text "'.Designator'" at 0.84,-4.047 h1
Top Courtyard:
  lines w0.254: -4.29,-20.82 4.29,-20.82 4.29,20.82 -4.29,20.82 -4.29,-20.82
Top Designator:
  text ".Designator" at -7.618,-0.508 h1.52

## PinHeader_2x33_P1.27mm_Horizontal [mm]
pads (66):
  rect 1x1 hole 0.65: 1(0,0)
  round 1 hole 0.65: 2(1.27,0) 3(0,-1.27) 4(1.27,-1.27) 5(0,-2.54) 6(1.27,-2.54) 7(0,-3.81) 8(1.27,-3.81) 9(0,-5.08) 10(1.27,-5.08) 11(0,-6.35) 12(1.27,-6.35) 13(0,-7.62) 14(1.27,-7.62) 15(0,-8.89) 16(1.27,-8.89) 17(0,-10.16) 18(1.27,-10.16) 19(0,-11.43) 20(1.27,-11.43) 21(0,-12.7) 22(1.27,-12.7) 23(0,-13.97) 24(1.27,-13.97) 25(0,-15.24) 26(1.27,-15.24) 27(0,-16.51) 28(1.27,-16.51) 29(0,-17.78) 30(1.27,-17.78) 31(0,-19.05) 32(1.27,-19.05) 33(0,-20.32) 34(1.27,-20.32) 35(0,-21.59) 36(1.27,-21.59) 37(0,-22.86) 38(1.27,-22.86) 39(0,-24.13) 40(1.27,-24.13) 41(0,-25.4) 42(1.27,-25.4) 43(0,-26.67) 44(1.27,-26.67) 45(0,-27.94) 46(1.27,-27.94) 47(0,-29.21) 48(1.27,-29.21) 49(0,-30.48) 50(1.27,-30.48) 51(0,-31.75) 52(1.27,-31.75) 53(0,-33.02) 54(1.27,-33.02) 55(0,-34.29) 56(1.27,-34.29) 57(0,-35.56) 58(1.27,-35.56) 59(0,-36.83) 60(1.27,-36.83) 61(0,-38.1) 62(1.27,-38.1) 63(0,-39.37) 64(1.27,-39.37) 65(0,-40.64) 66(1.27,-40.64)
F.SilkS:
  lines w0.254: -0.81,0 -0.81,0.81 0,0.81 ; 1.588,0.745 2.88,0.745 2.88,-41.385 1.66,-41.385 ; 1.773,-40.005 2.88,-40.005 ; 1.773,-38.735 2.88,-38.735 ; 1.773,-37.465 2.88,-37.465 ; 1.773,-36.195 2.88,-36.195 ; 1.773,-34.925 2.88,-34.925 ; 1.773,-33.655 2.88,-33.655 ; 1.773,-32.385 2.88,-32.385 ; 1.773,-31.115 2.88,-31.115 ; 1.773,-29.845 2.88,-29.845 ; 1.773,-28.575 2.88,-28.575 ; 1.773,-27.305 2.88,-27.305 ; 1.773,-26.035 2.88,-26.035 ; 1.773,-24.765 2.88,-24.765 ; 1.773,-23.495 2.88,-23.495 ; 1.773,-22.225 2.88,-22.225 ; 1.773,-20.955 2.88,-20.955 ; 1.773,-19.685 2.88,-19.685 ; 1.773,-18.415 2.88,-18.415 ; 1.773,-17.145 2.88,-17.145 ; 1.773,-15.875 2.88,-15.875 ; 1.773,-14.605 2.88,-14.605 ; 1.773,-13.335 2.88,-13.335 ; 1.773,-12.065 2.88,-12.065 ; 1.773,-10.795 2.88,-10.795 ; 1.773,-9.525 2.88,-9.525 ; 1.773,-8.255 2.88,-8.255 ; 1.773,-6.985 2.88,-6.985 ; 1.773,-5.715 2.88,-5.715 ; 1.773,-4.445 2.88,-4.445 ; 1.773,-3.175 2.88,-3.175 ; 1.773,-1.905 2.88,-1.905 ; 1.773,-0.635 2.88,-0.635 ; 2.88,-40.95 6.88,-40.95 6.88,-40.33 2.88,-40.33 ; 2.88,-39.68 6.88,-39.68 6.88,-39.06 2.88,-39.06 ; 2.88,-38.41 6.88,-38.41 6.88,-37.79 2.88,-37.79 ; 2.88,-37.14 6.88,-37.14 6.88,-36.52 2.88,-36.52 ; 2.88,-35.87 6.88,-35.87 6.88,-35.25 2.88,-35.25 ; 2.88,-34.6 6.88,-34.6 6.88,-33.98 2.88,-33.98 ; 2.88,-33.33 6.88,-33.33 6.88,-32.71 2.88,-32.71 ; 2.88,-32.06 6.88,-32.06 6.88,-31.44 2.88,-31.44 ; 2.88,-30.79 6.88,-30.79 6.88,-30.17 2.88,-30.17 ; 2.88,-29.52 6.88,-29.52 6.88,-28.9 2.88,-28.9 ; 2.88,-28.25 6.88,-28.25 6.88,-27.63 2.88,-27.63 ; 2.88,-26.98 6.88,-26.98 6.88,-26.36 2.88,-26.36 ; 2.88,-25.71 6.88,-25.71 6.88,-25.09 2.88,-25.09 ; 2.88,-24.44 6.88,-24.44 6.88,-23.82 2.88,-23.82 ; 2.88,-23.17 6.88,-23.17 6.88,-22.55 2.88,-22.55 ; 2.88,-21.9 6.88,-21.9 6.88,-21.28 2.88,-21.28 ; 2.88,-20.63 6.88,-20.63 6.88,-20.01 2.88,-20.01 ; 2.88,-19.36 6.88,-19.36 6.88,-18.74 2.88,-18.74 ; 2.88,-18.09 6.88,-18.09 6.88,-17.47 2.88,-17.47 ; 2.88,-16.82 6.88,-16.82 6.88,-16.2 2.88,-16.2 ; 2.88,-15.55 6.88,-15.55 6.88,-14.93 2.88,-14.93 ; 2.88,-14.28 6.88,-14.28 6.88,-13.66 2.88,-13.66 ; 2.88,-13.01 6.88,-13.01 6.88,-12.39 2.88,-12.39 ; 2.88,-11.74 6.88,-11.74 6.88,-11.12 2.88,-11.12 ; 2.88,-10.47 6.88,-10.47 6.88,-9.85 2.88,-9.85 ; 2.88,-9.2 6.88,-9.2 6.88,-8.58 2.88,-8.58 ; 2.88,-7.93 6.88,-7.93 6.88,-7.31 2.88,-7.31 ; 2.88,-6.66 6.88,-6.66 6.88,-6.04 2.88,-6.04 ; 2.88,-5.39 6.88,-5.39 6.88,-4.77 2.88,-4.77 ; 2.88,-4.12 6.88,-4.12 6.88,-3.5 2.88,-3.5 ; 2.88,-2.85 6.88,-2.85 6.88,-2.23 2.88,-2.23 ; 2.88,-1.58 6.88,-1.58 6.88,-0.96 2.88,-0.96 ; 2.88,-0.31 6.88,-0.31 6.88,0.31 2.88,0.31 2.88,-0.31
Top Assembly:
  drawing of 203 lines, arcs and shapes, not listed
  text "'.Designator'" at 2.774,-22.748 h0.6
Top Courtyard:
  lines w0.254: -1.14,-41.78 7.28,-41.78 7.28,1.14 -1.14,1.14 -1.14,-41.78
Top Designator:
  text ".Designator" at -4.548,-20.828 h1.52

## PinHeader_2x33_P1.27mm_Vertical [mm]
pads (66):
  rect 1x1 hole 0.65: 1(0,0)
  round 1 hole 0.65: 2(1.27,0) 3(0,-1.27) 4(1.27,-1.27) 5(0,-2.54) 6(1.27,-2.54) 7(0,-3.81) 8(1.27,-3.81) 9(0,-5.08) 10(1.27,-5.08) 11(0,-6.35) 12(1.27,-6.35) 13(0,-7.62) 14(1.27,-7.62) 15(0,-8.89) 16(1.27,-8.89) 17(0,-10.16) 18(1.27,-10.16) 19(0,-11.43) 20(1.27,-11.43) 21(0,-12.7) 22(1.27,-12.7) 23(0,-13.97) 24(1.27,-13.97) 25(0,-15.24) 26(1.27,-15.24) 27(0,-16.51) 28(1.27,-16.51) 29(0,-17.78) 30(1.27,-17.78) 31(0,-19.05) 32(1.27,-19.05) 33(0,-20.32) 34(1.27,-20.32) 35(0,-21.59) 36(1.27,-21.59) 37(0,-22.86) 38(1.27,-22.86) 39(0,-24.13) 40(1.27,-24.13) 41(0,-25.4) 42(1.27,-25.4) 43(0,-26.67) 44(1.27,-26.67) 45(0,-27.94) 46(1.27,-27.94) 47(0,-29.21) 48(1.27,-29.21) 49(0,-30.48) 50(1.27,-30.48) 51(0,-31.75) 52(1.27,-31.75) 53(0,-33.02) 54(1.27,-33.02) 55(0,-34.29) 56(1.27,-34.29) 57(0,-35.56) 58(1.27,-35.56) 59(0,-36.83) 60(1.27,-36.83) 61(0,-38.1) 62(1.27,-38.1) 63(0,-39.37) 64(1.27,-39.37) 65(0,-40.64) 66(1.27,-40.64)
F.SilkS:
  lines w0.254: -1.18,0 -1.18,0.81 0,0.81 ; -0.667,-0.81 -1.18,-0.81 -1.18,-41.385 -0.318,-41.385 ; 0.318,-41.385 0.952,-41.385 ; 1.588,-41.385 2.45,-41.385 2.45,0.745 1.588,0.745
Top Assembly:
  lines w0.254: -1.07,-41.275 2.34,-41.275 2.34,0.635 -0.218,0.635 -1.07,-0.218 -1.07,-41.275
  text "'.Designator'" at 1.475,-24.367 h1
Top Courtyard:
  lines w0.254: -1.57,-41.78 2.84,-41.78 2.84,1.14 -1.57,1.14 -1.57,-41.78
Top Designator:
  text ".Designator" at -6.983,-20.828 h1.52